# Altium schematic symbol library SchLibrary.SchLib: 6 symbols
Pins are listed as number, name and electrical type; pins without a type are passive.

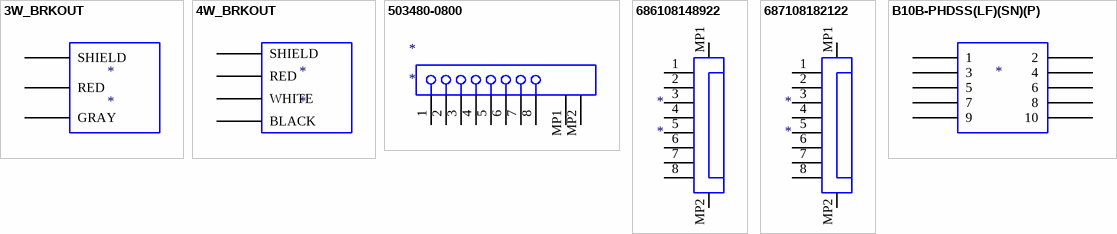
[diagram p0: symbols 3W_BRKOUT to B10B-PHDSS(LF)(SN)(P)]

## 3W_BRKOUT
designator *
footprint 3W_BRKOUT
pins: 1 SHIELD, 2 RED, 3 GRAY

## 4W_BRKOUT
designator *
footprint 4W_BRKOUT
pins: 1 SHIELD, 2 RED, 3 WHITE, 4 BLACK

## 503480-0800
designator *
CONN FFC FPC 8POS 0.50MM R/A; Manufacturer: Molex; Manufacturer Part Number: 503480-0800; Actuator Material: Nylon,Glass,Polyamide; Current Rating: 500mA; Voltage Rating: 50V; Number of Positions: 8; Gender: Receptacle; Wire/Cable Type: Straight; Stackable: No; Mating Cycles: 10; Pitch: 0.5mm; Supplier 1: Digi-Key; RoHS: Yes; Category: FFC / FPC; Stock 1: 20380; Pricing 1: 1=0.79000, 10=0.69800, 25=0.65720, 50=0.62980, 100=0.60230, 250=0.54760, 500=0.49282, 1000=0.43806 (USD); Contact Material: Bronze; Contact Plating: Gold; Housing Color: White; Material: Bronze; Housing Material: Polymer; Min Operating Temperature: -40°C; Max Operating Temperature: 85°C; Number of Rows: 1; Package Quantity: 3000; Packaging: Tape and Reel; Termination: Solder; Max Voltage Rating (AC): 50V; Number of Contacts: 8; Max Voltage Rating (DC): 50V; Orientation: Right Angle; Number of Circuits: 8; Length: 5.7mm; Depth: 3.6mm; Radiation Hardening: No; REACH SVHC: Unknown; Halogen Free: Low Halogen; ELV: Compliant; Flammability Rating: UL94 V-0; ComponentLink1URL: https://datasheet.ciiva.com/671/5034800400-sd-671136.pdf?src-supplier=Digi-Key; ComponentLink1Description: https://datasheet.ciiva.com/671/5034800400-sd-671136.pdf?src-supplier=Digi-Key; ComponentLink2URL: https://datasheet.ciiva.com/10363/5034800800-ffc-fpc-connectors-10363985.pdf?src-supplier=Avnet; ComponentLink2Description: https://datasheet.ciiva.com/10363/5034800800-ffc-fpc-connectors-10363985.pdf?src-supplier=Avnet; ComponentLink3URL: https://datasheet.ciiva.com/26825/getdatasheetpartid-495673-26825585.pdf?src-supplier=Verical; ComponentLink3Description: https://datasheet.ciiva.com/26825/getdatasheetpartid-495673-26825585.pdf?src-supplier=Verical; ComponentLink4URL: https://datasheet.ciiva.com/5751/1631789-5751170.pdf?src-supplier=Farnell; ComponentLink4Description: https://datasheet.ciiva.com/5751/1631789-5751170.pdf?src-supplier=Farnell; ComponentLink5URL: https://datasheet.ciiva.com/5138/5034800800-ffc-fpc-connectors-179547-5138276.pdf?src-supplier=Mouser; ComponentLink5Description: https://datasheet.ciiva.com/5138/5034800800-ffc-fpc-connectors-179547-5138276.pdf?src-supplier=Mouser; Supplier Part Number 1: WM1388CT-ND
footprint 503480-0800
pins: 1, 2, 3, 4, 5, 6, 7, 8, MP1, MP2

## 686108148922
designator *
8 Position FFC, FPC Connector Contacts, Bottom 0.039" (1.00mm) Surface Mount, Right Angle; Manufacturer: Wurth Electronics; Manufacturer Part Number: 686108148922; Actuator Material: Nylon,Polyamide; Voltage Rating: 100V; Current Rating: 1A; Number of Positions: 8; Gender: Receptacle; Wire/Cable Type: Straight; Pitch: 0.039inch; Supplier 1: Digi-Key; RoHS: Yes; Category: FFC / FPC; Stock 1: 2311; Pricing 1: 1=1.05000, 50=0.99300, 100=0.92200, 500=0.85100, 1000=0.74500 (USD); Mount: Surface Mount; Contact Material: Bronze; Contact Plating: Tin; Housing Material: Nylon; Min Operating Temperature: -40°C; Max Operating Temperature: 105°C; Packaging: Tape and Reel; Termination: Solder; Number of Rows: 1; Number of Contacts: 8; REACH SVHC: Unknown; Flammability Rating: UL94 V-0; ComponentLink1URL: http://www.farnell.com/cad/2130957.pdf?src-supplier=Element14; ComponentLink1Description: http://www.farnell.com/cad/2130957.pdf?src-supplier=Element14; ComponentLink2URL: http://www.farnell.com/cad/1889790.pdf?src-supplier=Element14; ComponentLink2Description: http://www.farnell.com/cad/1889790.pdf?src-supplier=Element14; ComponentLink3URL: https://www.distrelec.bizhttp://katalog.we-online.de/em/datasheet/6861xx148922.pdf?mime=application%2Fpdf&src-supplier=Distrelec; ComponentLink3Description: https://www.distrelec.bizhttp://katalog.we-online.de/em/datasheet/6861xx148922.pdf?mime=application%2Fpdf&src-supplier=Distrelec; Supplier Part Number 1: 732-6018-1-ND
footprint 686108148922
pins: 1, 2, 3, 4, 5, 6, 7, 8, MP1, MP2

## 687108182122
designator *
CONN FFC FPC 8POS 0.5MM R/A; Manufacturer: Wurth Electronics; Manufacturer Part Number: 687108182122; Actuator Material: Nylon,Polyamide; Number of Positions: 8; Voltage Rating: 50V; Current Rating: 500mA; Pitch: 0.02inch; Supplier 1: Digi-Key; RoHS: Yes; Category: FFC / FPC; Stock 1: 1416; Pricing 1: 1=1.41000, 100=1.17880, 500=1.03730, 1000=0.84870 (USD); Mount: Surface Mount; Contact Material: Bronze; Contact Plating: Tin; Housing Material: Polymer; Min Operating Temperature: -40°C; Max Operating Temperature: 105°C; Packaging: Tape and Reel; Termination: Solder; Flammability Rating: UL94 V-0; ComponentLink1URL: https://media.digikey.com/pdf/Data%20Sheets/Wurth%20Electronics%20PDFs/WR-FPC_FFC_Flyer.pdf?src-supplier=Digi-Key; ComponentLink1Description: https://media.digikey.com/pdf/Data%20Sheets/Wurth%20Electronics%20PDFs/WR-FPC_FFC_Flyer.pdf?src-supplier=Digi-Key; Supplier Part Number 1: 732-10016-1-ND
footprint 687108182122
pins: 1, 2, 3, 4, 5, 6, 7, 8, MP1, MP2

## B10B-PHDSS(LF)(SN)(P)
designator *
JST (JAPAN SOLDERLESS TERMINALS) - B10B-PHDSS(LF)(SN)(P) - CONNECTOR, HEADER, 10POS, 2MM, 2ROW; Number of Positions: 10; Gender: Male; Current Rating: 3A; Connector Type: Male Pin; Voltage Rating: 250V; Pitch: 0.079inch; Supplier 1: RSComponents; Manufacturer: JST; Manufacturer Part Number: B10B-PHDSS(LF)(SN)(P); RoHS: Yes; Category: Connectors; Stock 1: 35; Pricing 1: 5=0.54600, 125=0.40900, 500=0.37700, 2500=0.36900, 5000=0.36200 (USD); Mount: Through Hole; Color: Natural; Contact Material: Copper Alloy,Copper; Contact Plating: Tin; Orientation: Straight; Termination: Solder; Number of Contacts: 10; Number of Rows: 2; Packaging: Bulk; Package Quantity: 500; Row Spacing: 0.079inch; REACH SVHC: Unknown; ComponentLink1URL: https://datasheet.ciiva.com/11754/0900766b80ddecc5-11754210.pdf?src-supplier=RSComponents; ComponentLink1Description: https://datasheet.ciiva.com/11754/0900766b80ddecc5-11754210.pdf?src-supplier=RSComponents; ComponentLink2URL: https://datasheet.ciiva.com/712/ephd-712656.pdf?src-supplier=Digi-Key; ComponentLink2Description: https://datasheet.ciiva.com/712/ephd-712656.pdf?src-supplier=Digi-Key; ComponentLink3URL: https://datasheet.ciiva.com/46409/1699380-46409223.pdf?src-supplier=Element14; ComponentLink3Description: https://datasheet.ciiva.com/46409/1699380-46409223.pdf?src-supplier=Element14; Supplier Part Number 1: 6881379
footprint B10B-PHDSS(LF)(SN)(P)
pins: 1, 2, 3, 4, 5, 6, 7, 8, 9, 10